# Altium schematic symbol library Schlib1.SchLib: 2 symbols
Pins are listed as number, name and electrical type; pins without a type are passive.

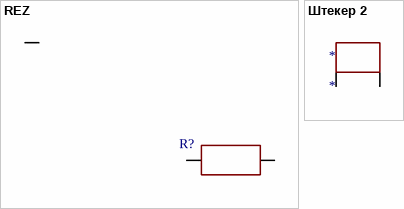
[diagram p0: symbols REZ to Штекер 2]

## REZ
designator R?
footprint rez (0.8 0.5)
pins: 1, 2, 4

## Штекер 2
designator *
footprint штекер 2
pins: 1, 2